# EAGLE library part SAMTEC_FSI_120_03 (library Traficon)
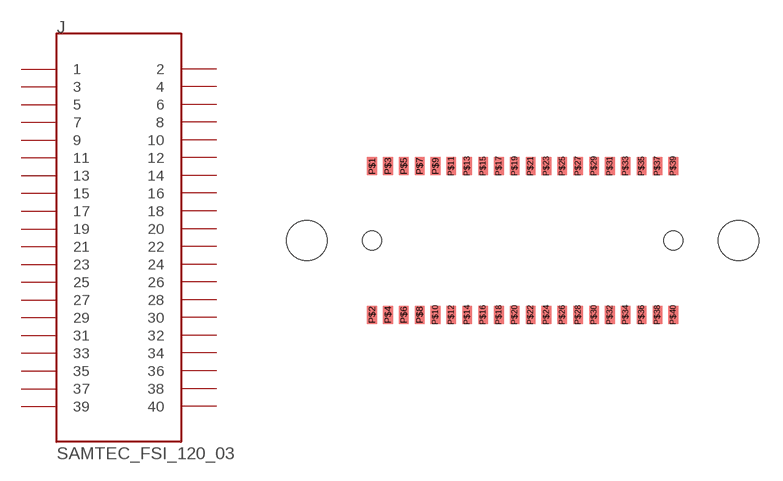
[diagram p139: symbol with the pads of SAMTEC_FSI_120_03; footprint SAMTEC_FSI_120_03]

Designator prefix J

## SAMTEC_FSI_120_03  [SAMTEC_FSI_120_03]
P$1  1
P$2  2
P$3  3
P$4  4
P$5  5
P$6  6
P$7  7
P$8  8
P$9  9
P$10  10
P$11  11
P$12  12
P$13  13
P$14  14
P$15  15
P$16  16
P$17  17
P$18  18
P$19  19
P$20  20
P$21  21
P$22  22
P$23  23
P$24  24
P$25  25
P$26  26
P$27  27
P$28  28
P$29  29
P$30  30
P$31  31
P$32  32
P$33  33
P$34  34
P$35  35
P$36  36
P$37  37
P$38  38
P$39  39
P$40  40

## Footprint SAMTEC_FSI_120_03 (pad centres in mm)
smd 0.61 x 1.13: P$1 -9.5,4.695; P$2 -9.5,-4.695; P$3 -8.5,4.695; P$4 -8.5,-4.695; P$5 -7.5,4.695; P$6 -7.5,-4.695; P$7 -6.5,4.695; P$8 -6.5,-4.695; P$9 -5.5,4.695; P$10 -5.5,-4.695; P$11 -4.5,4.695; P$12 -4.5,-4.695; P$13 -3.5,4.695; P$14 -3.5,-4.695; P$15 -2.5,4.695; P$16 -2.5,-4.695; P$17 -1.5,4.695; P$18 -1.5,-4.695; P$19 -0.5,4.695; P$20 -0.5,-4.695; P$21 0.5,4.695; P$22 0.5,-4.695; P$23 1.5,4.695; P$24 1.5,-4.695; P$25 2.5,4.695; P$26 2.5,-4.695; P$27 3.5,4.695; P$28 3.5,-4.695; P$29 4.5,4.695; P$30 4.5,-4.695; P$31 5.5,4.695; P$32 5.5,-4.695; P$33 6.5,4.695; P$34 6.5,-4.695; P$35 7.5,4.695; P$36 7.5,-4.695; P$37 8.5,4.695; P$38 8.5,-4.695; P$39 9.5,4.695; P$40 9.5,-4.695
hole 2.54 at -13.62,0
hole 2.54 at 13.62,0
hole 1.19 at -9.5,0
hole 1.19 at 9.5,0